# EAGLE library part M3804X(64PIN) (library renesas_mcu)
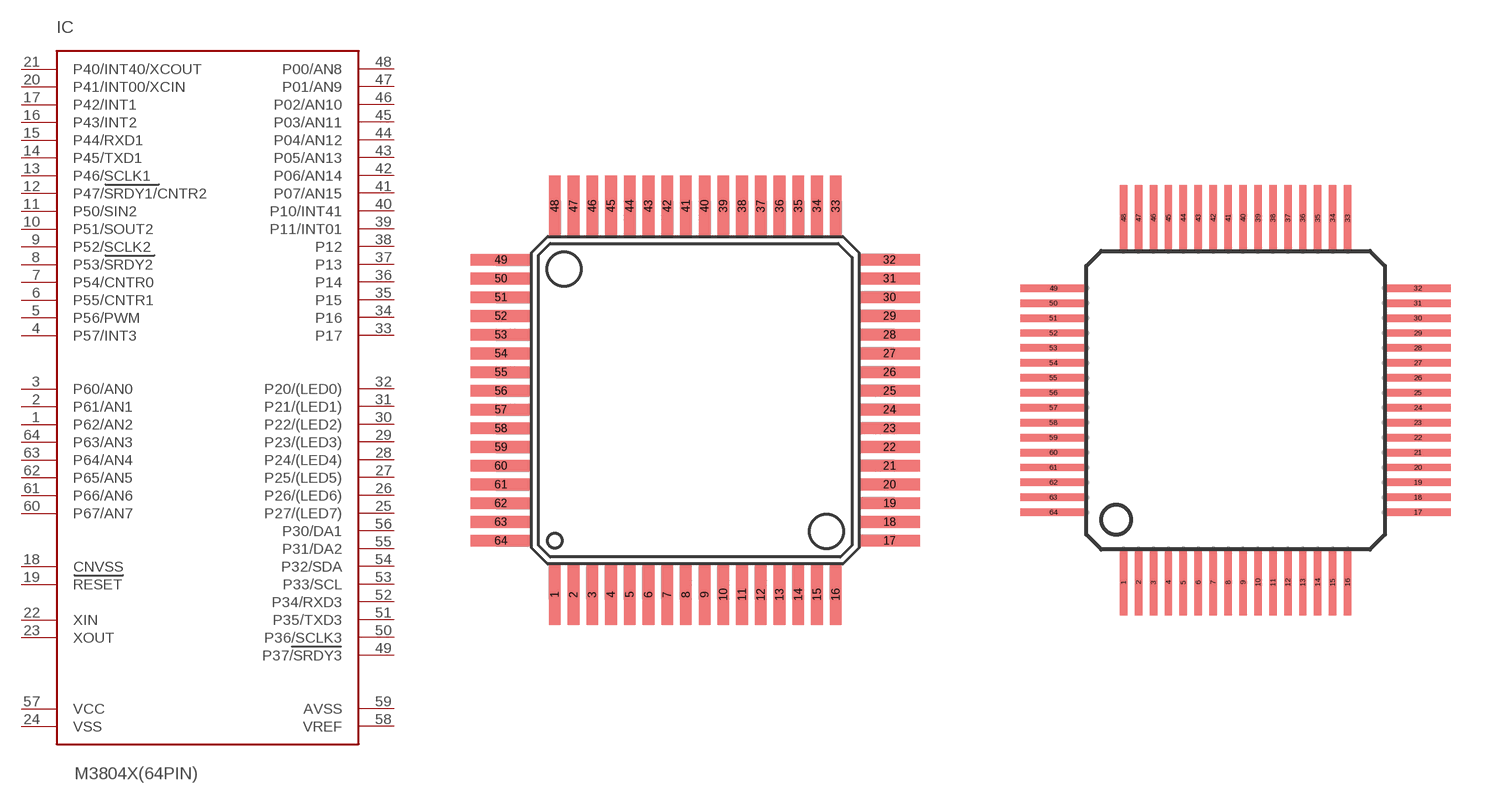
[diagram p68: symbol with the pads of 64P6N-A; footprints 64P6N-A, 64P6Q-A]

Designator prefix IC

## M3804X(64PIN)HP-N  [64P6N-A]
1  P62/AN2
2  P61/AN1
3  P60/AN0
4  P57/INT3
5  P56/PWM
6  P55/CNTR1
7  P54/CNTR0
8  P53/SRDY2
9  P52/SCLK2
10  P51/SOUT2
11  P50/SIN2
12  P47/SRDY1/CNTR2
13  P46/SCLK1
14  P45/TXD1
15  P44/RXD1
16  P43/INT2
17  P42/INT1
18  CNVSS  in
19  RESET  in
20  P41/INT00/XCIN
21  P40/INT40/XCOUT
22  XIN
23  XOUT  out
24  VSS  pwr
25  P27/(LED7)
26  P26/(LED6)
27  P25/(LED5)
28  P24/(LED4)
29  P23/(LED3)
30  P22/(LED2)
31  P21/(LED1)
32  P20/(LED0)
33  P17
34  P16
35  P15
36  P14
37  P13
38  P12
39  P11/INT01
40  P10/INT41
41  P07/AN15
42  P06/AN14
43  P05/AN13
44  P04/AN12
45  P03/AN11
46  P02/AN10
47  P01/AN9
48  P00/AN8
49  P37/SRDY3
50  P36/SCLK3
51  P35/TXD3
52  P34/RXD3
53  P33/SCL
54  P32/SDA
55  P31/DA2
56  P30/DA1
57  VCC  pwr
58  VREF  in
59  AVSS  in
60  P67/AN7
61  P66/AN6
62  P65/AN5
63  P64/AN4
64  P63/AN3

## M3804X(64PIN)'HP-Q  [64P6Q-A]
Pads as for 64P6N-A

## M3804X(64PIN)SP  [64P4B]
1  VCC  pwr
2  VREF  in
3  AVSS  in
4  P67/AN7
5  P66/AN6
6  P65/AN5
7  P64/AN4
8  P63/AN3
9  P62/AN2
10  P61/AN1
11  P60/AN0
12  P57/INT3
13  P56/PWM
14  P55/CNTR1
15  P54/CNTR0
16  P53/SRDY2
17  P52/SCLK2
18  P51/SOUT2
19  P50/SIN2
20  P47/SRDY1/CNTR2
21  P46/SCLK1
22  P45/TXD1
23  P44/RXD1
24  P43/INT2
25  P42/INT1
26  CNVSS  in
27  RESET  in
28  P41/INT00/XCIN
29  P40/INT40/XCOUT
30  XIN
31  XOUT  out
32  VSS  pwr
33  P27/(LED7)
34  P26/(LED6)
35  P25/(LED5)
36  P24/(LED4)
37  P23/(LED3)
38  P22/(LED2)
39  P21/(LED1)
40  P20/(LED0)
41  P17
42  P16
43  P15
44  P14
45  P13
46  P12
47  P11/INT01
48  P10/INT41
49  P07/AN15
50  P06/AN14
51  P05/AN13
52  P04/AN12
53  P03/AN11
54  P02/AN10
55  P01/AN9
56  P00/AN8
57  P37/SRDY3
58  P36/SCLK3
59  P35/TXD3
60  P34/RXD3
61  P33/SCL
62  P32/SDA
63  P31/DA2
64  P30/DA1

## Footprint 64P6N-A (pad centres in mm)
smd 0.5 x 2.6: 1 -6,-8.3; 2 -5.2,-8.3; 3 -4.4,-8.3; 4 -3.6,-8.3; 5 -2.8,-8.3; 6 -2,-8.3; 7 -1.2,-8.3; 8 -0.4,-8.3; 9 0.4,-8.3; 10 1.2,-8.3; 11 2,-8.3; 12 2.8,-8.3; 13 3.6,-8.3; 14 4.4,-8.3; 15 5.2,-8.3; 16 6,-8.3; 33 6,8.3; 34 5.2,8.3; 35 4.4,8.3; 36 3.6,8.3; 37 2.8,8.3; 38 2,8.3; 39 1.2,8.3; 40 0.4,8.3; 41 -0.4,8.3; 42 -1.2,8.3; 43 -2,8.3; 44 -2.8,8.3; 45 -3.6,8.3; 46 -4.4,8.3; 47 -5.2,8.3; 48 -6,8.3
smd 2.6 x 0.5: 17 8.3,-6; 18 8.3,-5.2; 19 8.3,-4.4; 20 8.3,-3.6; 21 8.3,-2.8; 22 8.3,-2; 23 8.3,-1.2; 24 8.3,-0.4; 25 8.3,0.4; 26 8.3,1.2; 27 8.3,2; 28 8.3,2.8; 29 8.3,3.6; 30 8.3,4.4; 31 8.3,5.2; 32 8.3,6; 49 -8.3,6; 50 -8.3,5.2; 51 -8.3,4.4; 52 -8.3,3.6; 53 -8.3,2.8; 54 -8.3,2; 55 -8.3,1.2; 56 -8.3,0.4; 57 -8.3,-0.4; 58 -8.3,-1.2; 59 -8.3,-2; 60 -8.3,-2.8; 61 -8.3,-3.6; 62 -8.3,-4.4; 63 -8.3,-5.2; 64 -8.3,-6

## Footprint 64P6Q-A (pad centres in mm)
smd 0.25 x 2.2: 1 -3.75,-6.1; 2 -3.25,-6.1; 3 -2.75,-6.1; 4 -2.25,-6.1; 5 -1.75,-6.1; 6 -1.25,-6.1; 7 -0.75,-6.1; 8 -0.25,-6.1; 9 0.25,-6.1; 10 0.75,-6.1; 11 1.25,-6.1; 12 1.75,-6.1; 13 2.25,-6.1; 14 2.75,-6.1; 15 3.25,-6.1; 16 3.75,-6.1; 33 3.75,6.1; 34 3.25,6.1; 35 2.75,6.1; 36 2.25,6.1; 37 1.75,6.1; 38 1.25,6.1; 39 0.75,6.1; 40 0.25,6.1; 41 -0.25,6.1; 42 -0.75,6.1; 43 -1.25,6.1; 44 -1.75,6.1; 45 -2.25,6.1; 46 -2.75,6.1; 47 -3.25,6.1; 48 -3.75,6.1
smd 2.2 x 0.25: 17 6.1,-3.75; 18 6.1,-3.25; 19 6.1,-2.75; 20 6.1,-2.25; 21 6.1,-1.75; 22 6.1,-1.25; 23 6.1,-0.75; 24 6.1,-0.25; 25 6.1,0.25; 26 6.1,0.75; 27 6.1,1.25; 28 6.1,1.75; 29 6.1,2.25; 30 6.1,2.75; 31 6.1,3.25; 32 6.1,3.75; 49 -6.1,3.75; 50 -6.1,3.25; 51 -6.1,2.75; 52 -6.1,2.25; 53 -6.1,1.75; 54 -6.1,1.25; 55 -6.1,0.75; 56 -6.1,0.25; 57 -6.1,-0.25; 58 -6.1,-0.75; 59 -6.1,-1.25; 60 -6.1,-1.75; 61 -6.1,-2.25; 62 -6.1,-2.75; 63 -6.1,-3.25; 64 -6.1,-3.75

## Footprint 64P4B (pad centres in mm)
drill 0.61 long: 1 -27.559,-9.557; 2 -25.781,-9.557; 3 -24.003,-9.557; 4 -22.225,-9.557; 5 -20.447,-9.557; 6 -18.669,-9.557; 7 -16.891,-9.557; 8 -15.113,-9.557; 9 -13.335,-9.557; 10 -11.557,-9.557; 11 -9.779,-9.557; 12 -8.001,-9.557; 13 -6.223,-9.557; 14 -4.445,-9.557; 15 -2.667,-9.557; 16 -0.889,-9.557; 17 0.889,-9.557; 18 2.667,-9.557; 19 4.445,-9.557; 20 6.223,-9.557; 21 8.001,-9.557; 22 9.779,-9.557; 23 11.557,-9.557; 24 13.335,-9.557; 25 15.113,-9.557; 26 16.891,-9.557; 27 18.669,-9.557; 28 20.447,-9.557; 29 22.225,-9.557; 30 24.003,-9.557; 31 25.781,-9.557; 32 27.559,-9.557; 33 27.559,9.557; 34 25.781,9.557; 35 24.003,9.557; 36 22.225,9.557; 37 20.447,9.557; 38 18.669,9.557; 39 16.891,9.557; 40 15.113,9.557; 41 13.335,9.557; 42 11.557,9.557; 43 9.779,9.557; 44 8.001,9.557; 45 6.223,9.557; 46 4.445,9.557; 47 2.667,9.557; 48 0.889,9.557; 49 -0.889,9.557; 50 -2.667,9.557; 51 -4.445,9.557; 52 -6.223,9.557; 53 -8.001,9.557; 54 -9.779,9.557; 55 -11.557,9.557; 56 -13.335,9.557; 57 -15.113,9.557; 58 -16.891,9.557; 59 -18.669,9.557; 60 -20.447,9.557; 61 -22.225,9.557; 62 -24.003,9.557; 63 -25.781,9.557; 64 -27.559,9.557